# EAGLE library part MAX6955AAX+ (library MAX6955AAX+)
MAX6955AAX+, LED Display Driver, 16-Digits 128-Segments, 2.7 5.5 V, 36-Pin SSOP Source: Datasheet <http://datasheets.maximintegrated.com/en/ds/MAX6955.pdf>
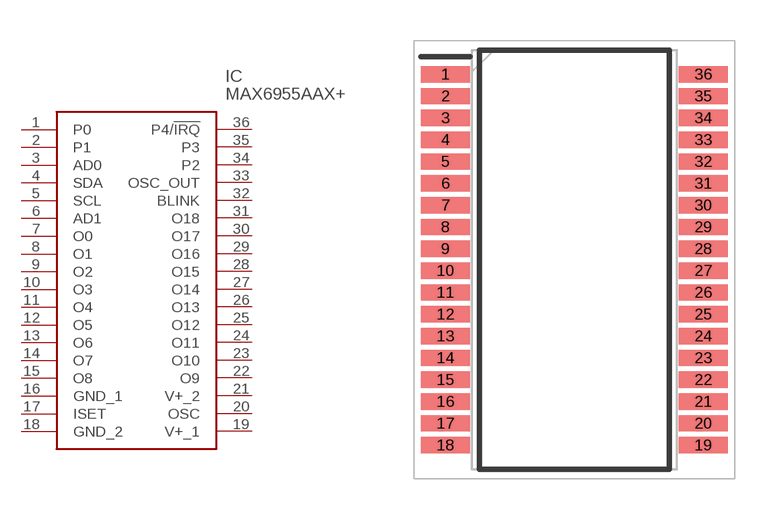
[diagram p0: symbol with the pads of SOP80P1030X264-36N; footprint SOP80P1030X264-36N]

Designator prefix IC

## MAX6955AAX+ (Description: MAX6955AAX+, LED Display Driver, 16-Digits 128-Segments, 2.7 5.5 V, 36-Pin SSOP; Height: 2.64mm; Manufacturer_Name: Maxim Integrated; Manufacturer_Part_Number: MAX6955AAX+; Mouser_Part_Number: 700-MAX6955AAX; Mouser_Price-Stock: https://www.mouser.co.uk/ProductDetail/Maxim-Integrated/MAX6955AAX%2b/?qs=1THa7WoU59HHiplILEoAzQ%3D%3D)  [SOP80P1030X264-36N]
1  P0
2  P1
3  AD0  in
4  SDA
5  SCL  in
6  AD1  in
7  O0  out
8  O1  out
9  O2  out
10  O3  out
11  O4  out
12  O5  out
13  O6  out
14  O7  out
15  O8  out
16  GND_1  pwr
17  ISET
18  GND_2  pwr
19  V+_1
20  OSC
21  V+_2
22  O9
23  O10
24  O11
25  O12
26  O13
27  O14
28  O15
29  O16
30  O17
31  O18
32  BLINK  in
33  OSC_OUT  out
34  P2
35  P3
36  P4/!IRQ

## Footprint SOP80P1030X264-36N (pad centres in mm)
MAX 36 SSOP
smd 1.8 x 0.6: 1 -4.725,6.8; 2 -4.725,6; 3 -4.725,5.2; 4 -4.725,4.4; 5 -4.725,3.6; 6 -4.725,2.8; 7 -4.725,2; 8 -4.725,1.2; 9 -4.725,0.4; 10 -4.725,-0.4; 11 -4.725,-1.2; 12 -4.725,-2; 13 -4.725,-2.8; 14 -4.725,-3.6; 15 -4.725,-4.4; 16 -4.725,-5.2; 17 -4.725,-6; 18 -4.725,-6.8; 19 4.725,-6.8; 20 4.725,-6; 21 4.725,-5.2; 22 4.725,-4.4; 23 4.725,-3.6; 24 4.725,-2.8; 25 4.725,-2; 26 4.725,-1.2; 27 4.725,-0.4; 28 4.725,0.4; 29 4.725,1.2; 30 4.725,2; 31 4.725,2.8; 32 4.725,3.6; 33 4.725,4.4; 34 4.725,5.2; 35 4.725,6; 36 4.725,6.8